# Altium footprint library screwire.PcbLib: 148 footprints (part 2 of 10)
Each footprint in its own frame and in the unit in brackets; x right, y up, seen from the top. Pads: shape width x height; smd on the part's side, far side on the other; paste and mask are expansions set on the pad; w line width, h text height; cw(c..) or ccw(c..) is an arc to the next point about the centre after c.
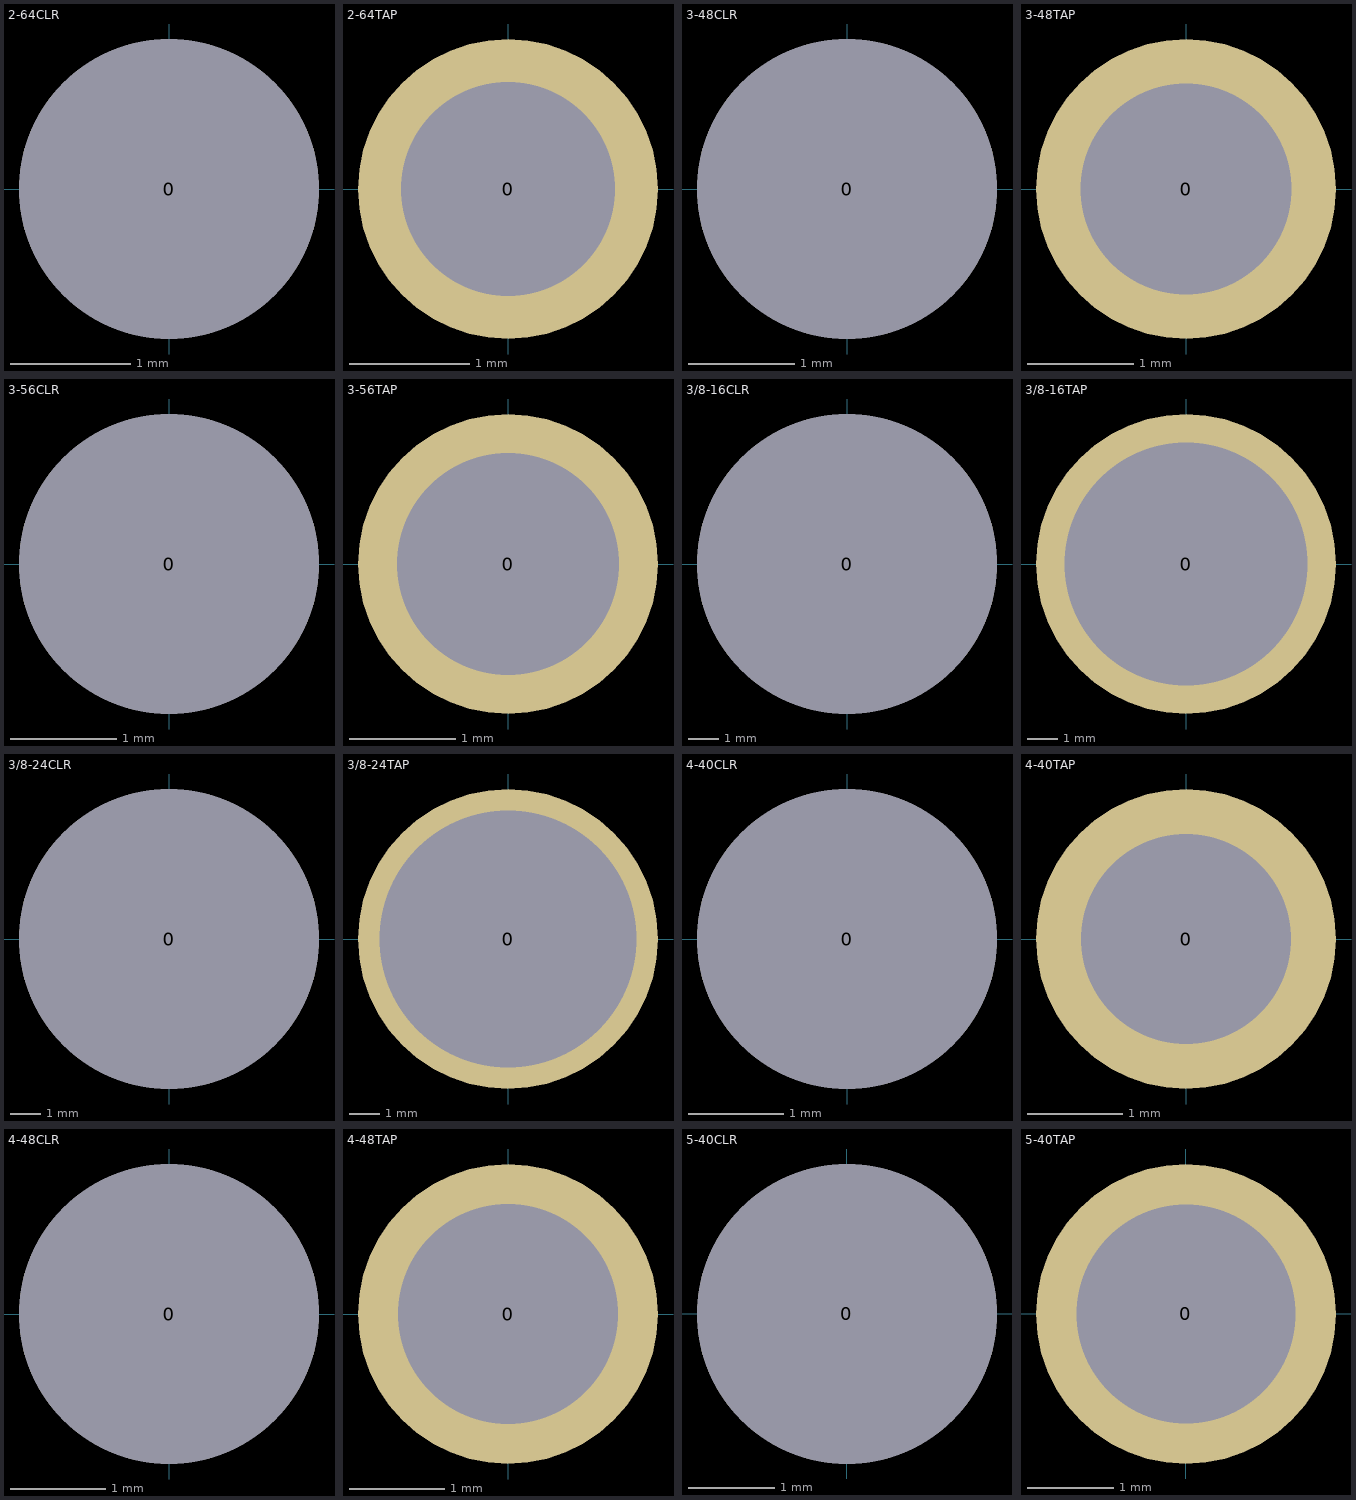
[diagram p1: the footprints below, top view; thin cyan lines are the x and y axes]

## 2-64CLR [mil]
pads (1):
  round 98 hole 98: 0(0,0)

## 2-64TAP [mil]
pads (1):
  round 98 hole 70: 0(0,0)

## 3-48CLR [mil]
pads (1):
  round 111 hole 111: 0(0,0)

## 3-48TAP [mil]
pads (1):
  round 111 hole 78: 0(0,0)

## 3-56CLR [mil]
pads (1):
  round 111 hole 111: 0(0,0)

## 3-56TAP [mil]
pads (1):
  round 111 hole 82: 0(0,0)

## 3/8-16CLR [mil]
pads (1):
  round 387 hole 387: 0(0,0)

## 3/8-16TAP [mil]
pads (1):
  round 387 hole 313: 0(0,0)

## 3/8-24CLR [mil]
pads (1):
  round 387 hole 387: 0(0,0)

## 3/8-24TAP [mil]
pads (1):
  round 387 hole 332: 0(0,0)

## 4-40CLR [mil]
pads (1):
  round 124 hole 124: 0(0,0)

## 4-40TAP [mil]
pads (1):
  round 124 hole 87: 0(0,0)

## 4-48CLR [mil]
pads (1):
  round 124 hole 124: 0(0,0)

## 4-48TAP [mil]
pads (1):
  round 124 hole 91: 0(0,0)

## 5-40CLR [mil]
pads (1):
  round 137 hole 137: 0(0,0)

## 5-40TAP [mil]
pads (1):
  round 137 hole 100: 0(0,0)